# EAGLE library part M95128 (library funkfinger)
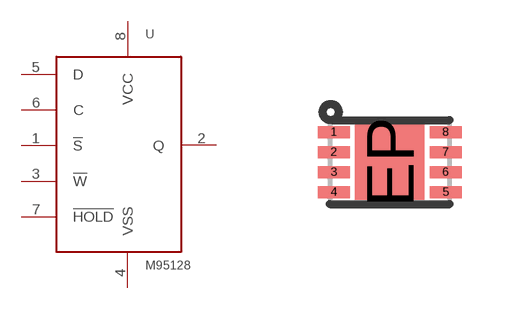
[diagram p7: symbol with the pads of UDFN-8; footprint UDFN-8]

Designator prefix -

## M95128  [UDFN-8]
1  !S
2  Q
3  !W
4  VSS
5  D
6  C
7  !HOLD
8  VCC

## Footprint UDFN-8 (pad centres in mm)
smd 0.8 x 0.3: 1 -1.4,0.75; 2 -1.4,0.25; 3 -1.4,-0.25; 4 -1.4,-0.75; 5 1.4,-0.75; 6 1.4,-0.25; 7 1.4,0.25; 8 1.4,0.75
smd 1.73 x 1.88: EP 0,0